# EAGLE library part ACS712 (library 000001)
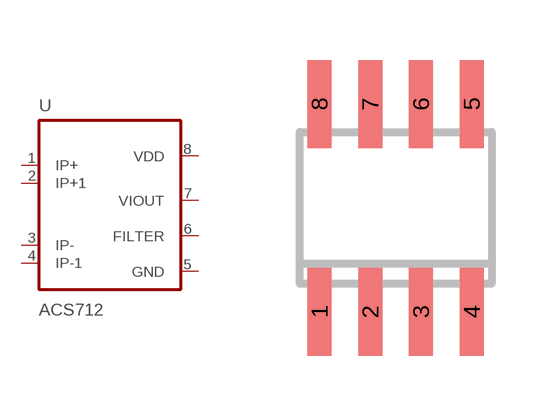
[diagram p96: symbol with the pads of SO-08; footprint SO-08]

Designator prefix -

## ACS712R  [SO-08]
1  IP+  pwr
2  IP+1  pwr
3  IP-  pwr
4  IP-1  pwr
5  GND  pwr
6  FILTER
7  VIOUT
8  VDD  pwr

## Footprint SO-08 (pad centres in mm)
Small Outline Narrow Plastic Gull Wing 150-mil body, package type SN
smd 0.6 x 2.2: 1 -1.905,-2.6; 2 -0.635,-2.6; 3 0.635,-2.6; 4 1.905,-2.6; 5 1.905,2.6; 6 0.635,2.6; 7 -0.635,2.6; 8 -1.905,2.6